# Altium integrated library LQW15AN4N7C00D.IntLib: 1 symbol
Pins are listed as number, name and electrical type; pins without a type are passive.

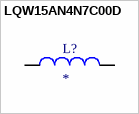
[diagram p0: symbol LQW15AN4N7C00D]

## LQW15AN4N7C00D
designator L?
INDUCTOR, 0402, 4.7NH; Inductor Type:Chip Coils; Inductance Tolerance:Â± 0.2nH; Resistance:0.07ohm; DC Current Max:750mA; Case Style:0402; Q Factor @ Vr, F:25; Core Material:Alumina; External Depth:0.6mm; External Length / ;RoHS Compliant: Yes; MP: LQW15AN4N7C00D; Package: None; Price: None; Value: *; Availability: Unavailable
footprint INDC1006X60N
pins: 1, 2